# EAGLE library part MAX863 (library DAC)
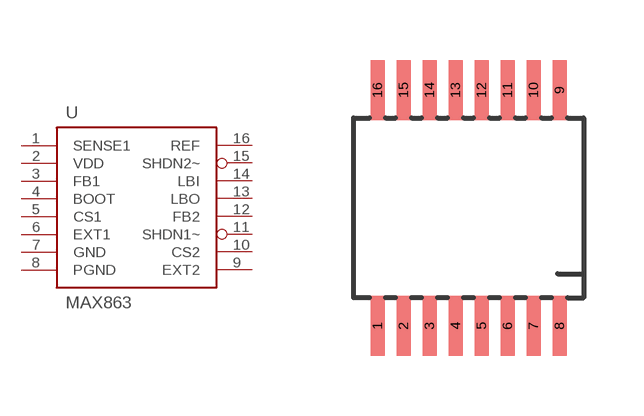
[diagram p38: symbol with the pads of TSSOP16; footprint TSSOP16]

Designator prefix U

## MAX863  [TSSOP16]
1  SENSE1  in
2  VDD  pwr
3  FB1  in
4  BOOT  in
5  CS1  in
6  EXT1  out
7  GND  sup
8  PGND  sup
9  EXT2  out
10  CS2  in
11  SHDN1~  in
12  FB2  in
13  LBO  out
14  LBI  in
15  SHDN2~  in
16  REF  in

## Footprint TSSOP16 (pad centres in mm)
smd 0.35 x 1.5: 1 -2.275,-2.95; 2 -1.625,-2.95; 3 -0.975,-2.95; 4 -0.325,-2.95; 5 0.325,-2.95; 6 0.975,-2.95; 7 1.625,-2.95; 8 2.275,-2.95; 9 2.275,2.95; 10 1.625,2.95; 11 0.975,2.95; 12 0.325,2.95; 13 -0.325,2.95; 14 -0.975,2.95; 15 -1.625,2.95; 16 -2.275,2.95